# EAGLE library part RN-52 (library roving-networks)
RN52 Bluetooth Audio Module Features: • Fully qualified Bluetooth® version 3.0 module, fully compatible with Bluetooth version 2.1+EDR, 1.2, and 1.1 • Software configurable through commands over UART console interface • Dedicated GPIO pins enable MCUs to access control and status functions efficiently • Postage-stamp-sized form factor, 13.5 x 26.0 x 2.7 mm • Embedded Bluetooth stack profiles: A2DP, AVRCP, HFP/HSP, and SPP • Dual-channel, differential audio input and output for highest quality audio • Supports iAP profile to discover iOS devices and apps (requires a special firmware build) • Integrated amplifier for driving 16 Ω speakers • UART (SPP) data connection interfaces • External audio CODECs supported via S/PDIF and I2S interface • Castellated SMT pads for easy and reliable PCB mounting • Environmentally friendly, RoHS compliant • Certifications: FCC, ICS, CE • Bluetooth SIG certified
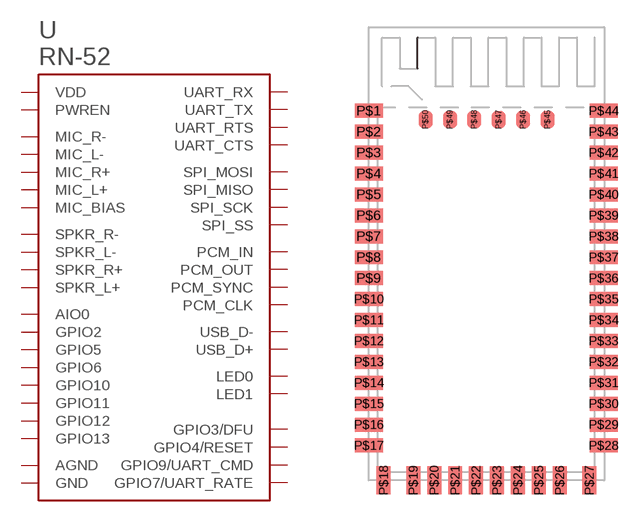
[diagram p0: symbol with the pads of RN-52; footprint RN-52]

Designator prefix U

## RN-52  [RN-52]
P$1  GND  pwr
P$2  GPIO3/DFU  in
P$3  GPIO2  in
P$4  AIO0  in
P$5  GPIO4/RESET  in
P$6  GPIO5  in
P$7  GPIO12  in
P$8  GPIO13  in
P$9  GPIO11  in
P$10  GPIO10  in
P$11  GPIO9/UART_CMD  in
P$12  USB_D-
P$13  USB_D+
P$14  UART_RTS
P$15  UART_CTS
P$16  UART_TX
P$17  UART_RX
P$18  GND  pwr
P$19  GPIO7/UART_RATE  in
P$20  GPIO6  in
P$21  PWREN
P$22  VDD  pwr
P$23  PCM_IN
P$24  PCM_OUT
P$25  PCM_SYNC
P$26  PCM_CLK
P$27  GND  pwr
P$28  SPI_SS
P$29  SPI_MISO
P$30  SPI_SCK
P$31  SPI_MOSI
P$32  LED1  in
P$33  LED0  in
P$34  MIC_BIAS
P$35  MIC_L+  in
P$36  MIC_R+  in
P$37  MIC_L-  in
P$38  MIC_R-  in
P$39  AGND  pwr
P$40  SPKR_R-  out
P$41  SPKR_L-  out
P$42  SPKR_R+  out
P$43  SPKR_L+  out
P$44  GND  pwr
P$45  GND  pwr
P$46  GND  pwr
P$47  GND  pwr
P$48  GND  pwr
P$49  GND  pwr
P$50  GND  pwr

## Footprint RN-52 (pad centres in mm)
smd 1.6 x 0.8: P$1 0,21.2; P$2 0,20; P$3 0,18.8; P$4 0,17.6; P$5 0,16.4; P$6 0,15.2; P$7 0,14; P$8 0,12.8; P$9 0,11.6; P$10 0,10.4; P$11 0,9.2; P$12 0,8; P$13 0,6.8; P$14 0,5.6; P$15 0,4.4; P$16 0,3.2; P$17 0,2; P$28 13.462,2; P$29 13.462,3.2; P$30 13.462,4.4; P$31 13.462,5.6; P$32 13.462,6.8; P$33 13.462,8; P$34 13.462,9.2; P$35 13.462,10.4; P$36 13.462,11.6; P$37 13.462,12.8; P$38 13.462,14; P$39 13.462,15.2; P$40 13.462,16.4; P$41 13.462,17.6; P$42 13.462,18.8; P$43 13.462,20; P$44 13.462,21.2
smd 0.8 x 1.6: P$18 0.85,0; P$19 2.55,0; P$20 3.75,0; P$21 4.95,0; P$22 6.15,0; P$23 7.35,0; P$24 8.55,0; P$25 9.75,0; P$26 10.95,0; P$27 12.65,0
smd 0.8 x 1: P$45 10.25,20.7; P$46 8.85,20.7; P$47 7.45,20.7; P$48 6.05,20.7; P$49 4.65,20.7; P$50 3.25,20.7